# Altium schematic symbol library DS1073-01-2x4.Schlib: 1 symbol
Pins are listed as number, name and electrical type; pins without a type are passive.

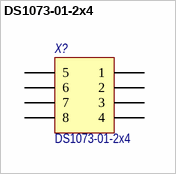
[diagram p0: symbol DS1073-01-2x4]

## DS1073-01-2x4
designator X?
Вилка ATX на плату 4.2мм 8 pin; Потребление, Вт: 0,000; Назначение: Вилка ATX на плату 4.2мм 8 pin; Наименование: DS1073-01-2x4
footprint DS1073-01-2x4-MV
footprint DS1073-01-2x4-MR
pins: 1, 2, 3, 4, 5, 6, 7, 8